# Altium integrated library TI Power Management Supervisor and Reset IC.IntLib: 819 symbols (part 22 of 30)
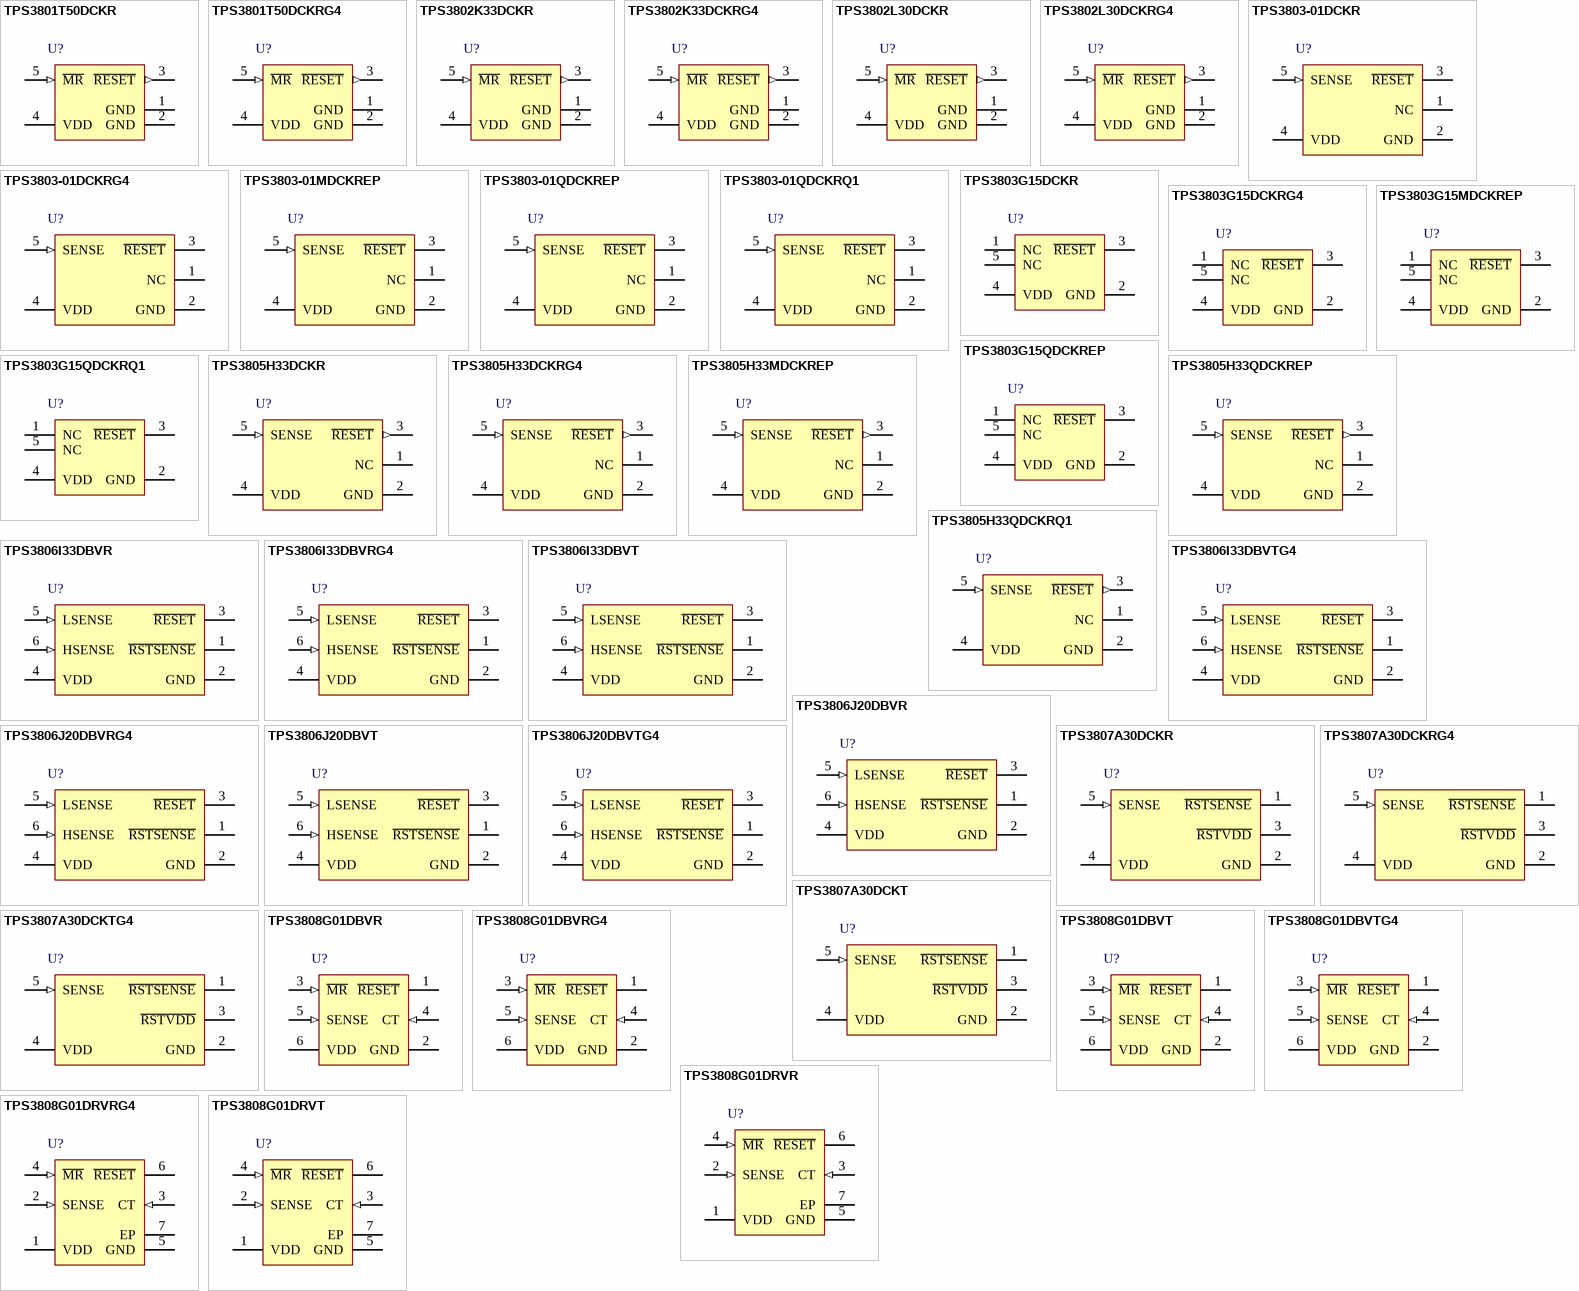
[diagram p42: symbols TPS3801T50DCKR to TPS3808G01DRVT]

## TPS3803-01QDCKREP
designator U?
Enhanced Product Single Voltage Detector, 1 Supply Monitored, -40 to 125 degC, 5-pin SC70 (DCK), Green (RoHS & no Sb/Br); Manufacturer: Texas Instruments; PartNumber: TPS3803-01QDCKREP; # of supplies monitored: 1; Iq(Typ)(uA): 3; Output Driver Type / Reset Output: Active-low, Open-drain; Rating: HiRel Enhanced Product; Reset Threshold Accuracy(%): 1.5; SubFamily: Supervisor and Reset IC; Threshold Voltage 1 (typ)(Typ)(V): Adjustable; VCC(Max)(V): 6; VCC(Min)(V): 1.3; DatasheetVersion: SGLS227C; PackageVersion: revG, Jan-2007; PackageReference: DCK5; PackageDescription: 5-Pin Plastic Small-Outline Package, 2 x 1.3 mm Body, 0.65 mm Pitch, 2.1 mm Lead Span; Supplier 1: Digi-Key; Supplier Part Number 1: 296-21268-2-ND; Supplier 2: Digi-Key; Supplier Part Number 2: 296-21268-1-ND; Supplier 3: Digi-Key; Supplier Part Number 3: 296-21268-6-ND; Supplier 4: Newark; Supplier Part Number 4: 46M1096; Supplier 5: Mouser; Supplier Part Number 5: 595-PS3803-01QDCKREP; Mounting Technology: Surface Mount; Code_JEDEC: MO-203-AA; ComponentLink1Description: Datasheet; ComponentLink1URL: http://www.ti.com/general/docs/lit/getliterature.tsp?genericPartNumber=TPS3803-01-EP&fileType=pdf
footprint DCK5_N (SOT353, 5-Leads, Body 2x1.3mm, Pitch 0.65mm, Lead Span 2.1mm, IPC Medium Density)
footprint DCK5_L (SOT353, 5-Leads, Body 2x1.3mm, Pitch 0.65mm, Lead Span 2.1mm, IPC High Density)
footprint DCK5_M (SOT353, 5-Leads, Body 2x1.3mm, Pitch 0.65mm, Lead Span 2.1mm, IPC Low Density)
pins: 1 NC "No internal connection", 2 GND (power) "Ground", 3 ~{RESET} (oc) "Active-low reset output (TPS3803--open-drain, TPS3805--push/pull)", 4 VDD (power) "Input supply voltage, fixed sense input for TPS3803G15 and TPS3805", 5 SENSE (in) "Adjustable sense input"

## TPS3803-01QDCKRQ1
designator U?
Automotive Catalog Single Voltage Detector, 1 Supply Monitored, -40 to 125 degC, 5-pin SC70 (DCK), Green (RoHS & no Sb/Br); Manufacturer: Texas Instruments; PartNumber: TPS3803-01QDCKRQ1; # of supplies monitored: 1; Iq(Typ)(uA): 3; Output Driver Type / Reset Output: Active-low, Open-drain; Reset Threshold Accuracy(%): 1.5; SubFamily: Supervisor and Reset IC; Threshold Voltage 1 (typ)(Typ)(V): Adjustable; VCC(Max)(V): 6; VCC(Min)(V): 1.3; DatasheetVersion: SGLS228B; PackageVersion: revG, Jan-2007; PackageReference: DCK5; PackageDescription: 5-Pin Plastic Small-Outline Package, 2 x 1.3 mm Body, 0.65 mm Pitch, 2.1 mm Lead Span; Supplier 1: Digi-Key; Supplier Part Number 1: 296-16960-2-ND; Supplier 2: Digi-Key; Supplier Part Number 2: 296-16960-1-ND; Supplier 3: Digi-Key; Supplier Part Number 3: 296-16960-6-ND; Supplier 4: Newark; Supplier Part Number 4: 95H4554; Supplier 5: Mouser; Supplier Part Number 5: 595-TPS380301QDCKRQ1; Rating: Automotive; Mounting Technology: Surface Mount; Code_JEDEC: MO-203-AA; ComponentLink1Description: Datasheet; ComponentLink1URL: http://www.ti.com/general/docs/lit/getliterature.tsp?genericPartNumber=TPS3803-01-Q1&fileType=pdf
footprint DCK5_N (SOT353, 5-Leads, Body 2x1.3mm, Pitch 0.65mm, Lead Span 2.1mm, IPC Medium Density)
footprint DCK5_L (SOT353, 5-Leads, Body 2x1.3mm, Pitch 0.65mm, Lead Span 2.1mm, IPC High Density)
footprint DCK5_M (SOT353, 5-Leads, Body 2x1.3mm, Pitch 0.65mm, Lead Span 2.1mm, IPC Low Density)
pins: 1 NC "No internal connection", 2 GND (power) "Ground", 3 ~{RESET} (oc) "Active-low reset output (TPS3803: open drain)", 4 VDD (power) "Input supply voltage, fixed sense input for TPS3803G15 and TPS3805", 5 SENSE (in) "Adjustable sense input"

## TPS3803G15DCKR
designator U?
Single Voltage Detector, 1 Supply Monitored, 5-pin SC70 (DCK), Green (RoHS & no Sb/Br); Manufacturer: Texas Instruments; PartNumber: TPS3803G15DCKR; # of supplies monitored: 1; Iq(Typ)(uA): 3; Output Driver Type / Reset Output: Active-low, Open-drain; Rating: Catalog; Reset Threshold Accuracy(%): 1.5; SubFamily: Supervisor and Reset IC; Threshold Voltage 1 (typ)(Typ)(V): 1.4; VCC(Max)(V): 6; VCC(Min)(V): 1.3; DatasheetVersion: SLVS392A; PackageVersion: revG, Jan-2007; PackageReference: DCK5; PackageDescription: 5-Pin Plastic Small-Outline Package, 2 x 1.3 mm Body, 0.65 mm Pitch, 2.1 mm Lead Span; Supplier 1: Digi-Key; Supplier Part Number 1: 296-13406-2-ND; Supplier 2: Digi-Key; Supplier Part Number 2: 296-13406-1-ND; Supplier 3: Digi-Key; Supplier Part Number 3: 296-13406-6-ND; Supplier 4: Newark; Supplier Part Number 4: 77C0393; Supplier 5: Mouser; Supplier Part Number 5: 595-TPS3803G15DCKR; Mounting Technology: Surface Mount; Code_JEDEC: MO-203-AA; ComponentLink1Description: Datasheet; ComponentLink1URL: http://www.ti.com/general/docs/lit/getliterature.tsp?genericPartNumber=TPS3803G15&fileType=pdf
footprint DCK5_N (SOT353, 5-Leads, Body 2x1.3mm, Pitch 0.65mm, Lead Span 2.1mm, IPC Medium Density)
footprint DCK5_L (SOT353, 5-Leads, Body 2x1.3mm, Pitch 0.65mm, Lead Span 2.1mm, IPC High Density)
footprint DCK5_M (SOT353, 5-Leads, Body 2x1.3mm, Pitch 0.65mm, Lead Span 2.1mm, IPC Low Density)
pins: 1 NC "No internal connection", 2 GND (power) "Ground", 3 ~{RESET} (oc) "Active-low reset output (TPS3803--open-drain, TPS3805--push/pull)", 4 VDD (power) "Input supply voltage, fixed sense input for TPS3803G15 and TPS3805", 5 NC "No internal connection"

## TPS3803G15DCKRG4
designator U?
Single Voltage Detector, 1 Supply Monitored, 5-pin SC70 (DCK), Green (RoHS & no Sb/Br); Manufacturer: Texas Instruments; PartNumber: TPS3803G15DCKRG4; # of supplies monitored: 1; Iq(Typ)(uA): 3; Output Driver Type / Reset Output: Active-low, Open-drain; Rating: Catalog; Reset Threshold Accuracy(%): 1.5; SubFamily: Supervisor and Reset IC; Threshold Voltage 1 (typ)(Typ)(V): 1.4; VCC(Max)(V): 6; VCC(Min)(V): 1.3; DatasheetVersion: SLVS392A; PackageVersion: revG, Jan-2007; PackageReference: DCK5; PackageDescription: 5-Pin Plastic Small-Outline Package, 2 x 1.3 mm Body, 0.65 mm Pitch, 2.1 mm Lead Span; Supplier 1: Digi-Key; Supplier Part Number 1: TPS3803G15DCKRG4-ND; Supplier 2: Newark; Supplier Part Number 2: 57K1320; Supplier 3: Mouser; Supplier Part Number 3: 595-TPS3803G15DCKRG4; Mounting Technology: Surface Mount; Code_JEDEC: MO-203-AA; ComponentLink1Description: Datasheet; ComponentLink1URL: http://www.ti.com/general/docs/lit/getliterature.tsp?genericPartNumber=TPS3803G15&fileType=pdf
footprint DCK5_N (SOT353, 5-Leads, Body 2x1.3mm, Pitch 0.65mm, Lead Span 2.1mm, IPC Medium Density)
footprint DCK5_L (SOT353, 5-Leads, Body 2x1.3mm, Pitch 0.65mm, Lead Span 2.1mm, IPC High Density)
footprint DCK5_M (SOT353, 5-Leads, Body 2x1.3mm, Pitch 0.65mm, Lead Span 2.1mm, IPC Low Density)
pins: 1 NC "No internal connection", 2 GND (power) "Ground", 3 ~{RESET} (oc) "Active-low reset output (TPS3803--open-drain, TPS3805--push/pull)", 4 VDD (power) "Input supply voltage, fixed sense input for TPS3803G15 and TPS3805", 5 NC "No internal connection"

## TPS3803G15MDCKREP
designator U?
Enhanced Product Single Voltage Detector, 1 Supply Monitored, -55 to 125 degC, 5-pin SC70 (DCK), Green (RoHS & no Sb/Br); Manufacturer: Texas Instruments; PartNumber: TPS3803G15MDCKREP; # of supplies monitored: 1; Iq(Typ)(uA): 3; Output Driver Type / Reset Output: Active-low, Open-drain; Rating: HiRel Enhanced Product; Reset Threshold Accuracy(%): 1.5; SubFamily: Supervisor and Reset IC; Threshold Voltage 1 (typ)(Typ)(V): 1.4; VCC(Max)(V): 6; VCC(Min)(V): 1.3; DatasheetVersion: SGLS227C; PackageVersion: revG, Jan-2007; PackageReference: DCK5; PackageDescription: 5-Pin Plastic Small-Outline Package, 2 x 1.3 mm Body, 0.65 mm Pitch, 2.1 mm Lead Span; Supplier 1: Digi-Key; Supplier Part Number 1: 296-19525-2-ND; Supplier 2: Digi-Key; Supplier Part Number 2: 296-19525-1-ND; Supplier 3: Digi-Key; Supplier Part Number 3: 296-19525-6-ND; Supplier 4: Mouser; Supplier Part Number 4: 595-PS3803G15MDCKREP; Mounting Technology: Surface Mount; Code_JEDEC: MO-203-AA; ComponentLink1Description: Datasheet; ComponentLink1URL: http://www.ti.com/general/docs/lit/getliterature.tsp?genericPartNumber=TPS3803G15-EP&fileType=pdf
footprint DCK5_N (SOT353, 5-Leads, Body 2x1.3mm, Pitch 0.65mm, Lead Span 2.1mm, IPC Medium Density)
footprint DCK5_L (SOT353, 5-Leads, Body 2x1.3mm, Pitch 0.65mm, Lead Span 2.1mm, IPC High Density)
footprint DCK5_M (SOT353, 5-Leads, Body 2x1.3mm, Pitch 0.65mm, Lead Span 2.1mm, IPC Low Density)
pins: 1 NC "No internal connection", 2 GND (power) "Ground", 3 ~{RESET} (oc) "Active-low reset output (TPS3803--open-drain, TPS3805--push/pull)", 4 VDD (power) "Input supply voltage, fixed sense input for TPS3803G15 and TPS3805", 5 NC "No internal connection"

## TPS3803G15QDCKREP
designator U?
Enhanced Product Single Voltage Detector, 1 Supply Monitored, -40 to 125 degC, 5-pin SC70 (DCK), Green (RoHS & no Sb/Br); Manufacturer: Texas Instruments; PartNumber: TPS3803G15QDCKREP; # of supplies monitored: 1; Iq(Typ)(uA): 3; Output Driver Type / Reset Output: Active-low, Open-drain; Rating: HiRel Enhanced Product; Reset Threshold Accuracy(%): 1.5; SubFamily: Supervisor and Reset IC; Threshold Voltage 1 (typ)(Typ)(V): 1.4; VCC(Max)(V): 6; VCC(Min)(V): 1.3; DatasheetVersion: SGLS227C; PackageVersion: revG, Jan-2007; PackageReference: DCK5; PackageDescription: 5-Pin Plastic Small-Outline Package, 2 x 1.3 mm Body, 0.65 mm Pitch, 2.1 mm Lead Span; Supplier 1: Digi-Key; Supplier Part Number 1: 296-19526-2-ND; Supplier 2: Digi-Key; Supplier Part Number 2: 296-19526-1-ND; Supplier 3: Digi-Key; Supplier Part Number 3: 296-19526-6-ND; Supplier 4: Mouser; Supplier Part Number 4: 595-PS3803G15QDCKREP; Mounting Technology: Surface Mount; Code_JEDEC: MO-203-AA; ComponentLink1Description: Datasheet; ComponentLink1URL: http://www.ti.com/general/docs/lit/getliterature.tsp?genericPartNumber=TPS3803G15-EP&fileType=pdf
footprint DCK5_N (SOT353, 5-Leads, Body 2x1.3mm, Pitch 0.65mm, Lead Span 2.1mm, IPC Medium Density)
footprint DCK5_L (SOT353, 5-Leads, Body 2x1.3mm, Pitch 0.65mm, Lead Span 2.1mm, IPC High Density)
footprint DCK5_M (SOT353, 5-Leads, Body 2x1.3mm, Pitch 0.65mm, Lead Span 2.1mm, IPC Low Density)
pins: 1 NC "No internal connection", 2 GND (power) "Ground", 3 ~{RESET} (oc) "Active-low reset output (TPS3803--open-drain, TPS3805--push/pull)", 4 VDD (power) "Input supply voltage, fixed sense input for TPS3803G15 and TPS3805", 5 NC "No internal connection"

## TPS3803G15QDCKRQ1
designator U?
Automotive Catalog Single Voltage Detector, 1 Supply Monitored, -40 to 125 degC, 5-pin SC70 (DCK), Green (RoHS & no Sb/Br); Manufacturer: Texas Instruments; PartNumber: TPS3803G15QDCKRQ1; # of supplies monitored: 1; Iq(Typ)(uA): 3; Output Driver Type / Reset Output: Active-low, Open-drain; Reset Threshold Accuracy(%): 1.5; SubFamily: Supervisor and Reset IC; Threshold Voltage 1 (typ)(Typ)(V): 1.4; VCC(Max)(V): 6; VCC(Min)(V): 1.3; DatasheetVersion: SGLS228B; PackageVersion: revG, Jan-2007; PackageReference: DCK5; PackageDescription: 5-Pin Plastic Small-Outline Package, 2 x 1.3 mm Body, 0.65 mm Pitch, 2.1 mm Lead Span; Supplier 1: Digi-Key; Supplier Part Number 1: 296-16961-2-ND; Supplier 2: Digi-Key; Supplier Part Number 2: 296-16961-1-ND; Supplier 3: Digi-Key; Supplier Part Number 3: 296-16961-6-ND; Supplier 4: Newark; Supplier Part Number 4: 95H4555; Supplier 5: Mouser; Supplier Part Number 5: 595-TP3803G15QDCKRQ1; Rating: Automotive; Mounting Technology: Surface Mount; Code_JEDEC: MO-203-AA; ComponentLink1Description: Datasheet; ComponentLink1URL: http://www.ti.com/general/docs/lit/getliterature.tsp?genericPartNumber=TPS3803G15-Q1&fileType=pdf
footprint DCK5_N (SOT353, 5-Leads, Body 2x1.3mm, Pitch 0.65mm, Lead Span 2.1mm, IPC Medium Density)
footprint DCK5_L (SOT353, 5-Leads, Body 2x1.3mm, Pitch 0.65mm, Lead Span 2.1mm, IPC High Density)
footprint DCK5_M (SOT353, 5-Leads, Body 2x1.3mm, Pitch 0.65mm, Lead Span 2.1mm, IPC Low Density)
pins: 1 NC "No internal connection", 2 GND (power) "Ground", 3 ~{RESET} (oc) "Active-low reset output (TPS3803: open drain)", 4 VDD (power) "Input supply voltage, fixed sense input for TPS3803G15 and TPS3805", 5 NC "No internal connection"

## TPS3805H33DCKR
designator U?
Dual Voltage Detector, 2 Supply Monitored, -40 to 85 degC, 5-pin SC70 (DCK), Green (RoHS & no Sb/Br); Manufacturer: Texas Instruments; PartNumber: TPS3805H33DCKR; # of supplies monitored: 2; Iq(Typ)(uA): 3; Output Driver Type / Reset Output: Active-low, Push-pull; Rating: Catalog; Reset Threshold Accuracy(%): 1.5; SubFamily: Supervisor and Reset IC; Threshold Voltage 1 (typ)(Typ)(V): 3.05; Threshold Voltage 2 (typ)(Typ)(V): Adjustable; VCC(Max)(V): 6; VCC(Min)(V): 1.3; DatasheetVersion: SLVS392A; PackageVersion: revG, Jan-2007; PackageReference: DCK5; PackageDescription: 5-Pin Plastic Small-Outline Package, 2 x 1.3 mm Body, 0.65 mm Pitch, 2.1 mm Lead Span; Supplier 1: Digi-Key; Supplier Part Number 1: 296-13407-2-ND; Supplier 2: Digi-Key; Supplier Part Number 2: 296-13407-1-ND; Supplier 3: Digi-Key; Supplier Part Number 3: 296-13407-6-ND; Supplier 4: Newark; Supplier Part Number 4: 77C0394; Supplier 5: Mouser; Supplier Part Number 5: 595-TPS3805H33DCKR; Mounting Technology: Surface Mount; Code_JEDEC: MO-203-AA; ComponentLink1Description: Datasheet; ComponentLink1URL: http://www.ti.com/general/docs/lit/getliterature.tsp?genericPartNumber=TPS3805H33&fileType=pdf
footprint DCK5_N (SOT353, 5-Leads, Body 2x1.3mm, Pitch 0.65mm, Lead Span 2.1mm, IPC Medium Density)
footprint DCK5_L (SOT353, 5-Leads, Body 2x1.3mm, Pitch 0.65mm, Lead Span 2.1mm, IPC High Density)
footprint DCK5_M (SOT353, 5-Leads, Body 2x1.3mm, Pitch 0.65mm, Lead Span 2.1mm, IPC Low Density)
pins: 1 NC "No internal connection", 2 GND (power) "Ground", 3 ~{RESET} (out) "Active-low reset output (TPS3803--open-drain, TPS3805--push/pull)", 4 VDD (power) "Input supply voltage, fixed sense input for TPS3803G15 and TPS3805", 5 SENSE (in) "Adjustable sense input"

## TPS3805H33DCKRG4
designator U?
Dual Voltage Detector, 2 Supply Monitored, -40 to 85 degC, 5-pin SC70 (DCK), Green (RoHS & no Sb/Br); Manufacturer: Texas Instruments; PartNumber: TPS3805H33DCKRG4; # of supplies monitored: 2; Iq(Typ)(uA): 3; Output Driver Type / Reset Output: Active-low, Push-pull; Rating: Catalog; Reset Threshold Accuracy(%): 1.5; SubFamily: Supervisor and Reset IC; Threshold Voltage 1 (typ)(Typ)(V): 3.05; Threshold Voltage 2 (typ)(Typ)(V): Adjustable; VCC(Max)(V): 6; VCC(Min)(V): 1.3; DatasheetVersion: SLVS392A; PackageVersion: revG, Jan-2007; PackageReference: DCK5; PackageDescription: 5-Pin Plastic Small-Outline Package, 2 x 1.3 mm Body, 0.65 mm Pitch, 2.1 mm Lead Span; Supplier 1: Digi-Key; Supplier Part Number 1: TPS3805H33DCKRG4-ND; Supplier 2: Newark; Supplier Part Number 2: 24K5930; Supplier 3: Mouser; Supplier Part Number 3: 595-TPS3805H33DCKRG4; Mounting Technology: Surface Mount; Code_JEDEC: MO-203-AA; ComponentLink1Description: Datasheet; ComponentLink1URL: http://www.ti.com/general/docs/lit/getliterature.tsp?genericPartNumber=TPS3805H33&fileType=pdf
footprint DCK5_N (SOT353, 5-Leads, Body 2x1.3mm, Pitch 0.65mm, Lead Span 2.1mm, IPC Medium Density)
footprint DCK5_L (SOT353, 5-Leads, Body 2x1.3mm, Pitch 0.65mm, Lead Span 2.1mm, IPC High Density)
footprint DCK5_M (SOT353, 5-Leads, Body 2x1.3mm, Pitch 0.65mm, Lead Span 2.1mm, IPC Low Density)
pins: 1 NC "No internal connection", 2 GND (power) "Ground", 3 ~{RESET} (out) "Active-low reset output (TPS3803--open-drain, TPS3805--push/pull)", 4 VDD (power) "Input supply voltage, fixed sense input for TPS3803G15 and TPS3805", 5 SENSE (in) "Adjustable sense input"

## TPS3805H33MDCKREP
designator U?
Enhanced Product Dual Voltage Detector, 2 Supply Monitored, -55 to 125 degC, 5-pin SC70 (DCK), Green (RoHS & no Sb/Br); Manufacturer: Texas Instruments; PartNumber: TPS3805H33MDCKREP; # of supplies monitored: 2; Iq(Typ)(uA): 3; Output Driver Type / Reset Output: Active-low, Push-pull; Rating: HiRel Enhanced Product; Reset Threshold Accuracy(%): 1.5; SubFamily: Supervisor and Reset IC; Threshold Voltage 1 (typ)(Typ)(V): 3.05; Threshold Voltage 2 (typ)(Typ)(V): Adjustable; VCC(Max)(V): 6; VCC(Min)(V): 1.3; DatasheetVersion: SGLS227C; PackageVersion: revG, Jan-2007; PackageReference: DCK5; PackageDescription: 5-Pin Plastic Small-Outline Package, 2 x 1.3 mm Body, 0.65 mm Pitch, 2.1 mm Lead Span; Supplier 1: Digi-Key; Supplier Part Number 1: 296-18152-2-ND; Supplier 2: Digi-Key; Supplier Part Number 2: 296-18152-1-ND; Supplier 3: Digi-Key; Supplier Part Number 3: 296-18152-6-ND; Supplier 4: Newark; Supplier Part Number 4: 46M1099; Supplier 5: Mouser; Supplier Part Number 5: 595-PS3805H33MDCKREP; Mounting Technology: Surface Mount; Code_JEDEC: MO-203-AA; ComponentLink1Description: Datasheet; ComponentLink1URL: http://www.ti.com/general/docs/lit/getliterature.tsp?genericPartNumber=TPS3805H33-EP&fileType=pdf
footprint DCK5_N (SOT353, 5-Leads, Body 2x1.3mm, Pitch 0.65mm, Lead Span 2.1mm, IPC Medium Density)
footprint DCK5_L (SOT353, 5-Leads, Body 2x1.3mm, Pitch 0.65mm, Lead Span 2.1mm, IPC High Density)
footprint DCK5_M (SOT353, 5-Leads, Body 2x1.3mm, Pitch 0.65mm, Lead Span 2.1mm, IPC Low Density)
pins: 1 NC "No internal connection", 2 GND (power) "Ground", 3 ~{RESET} (out) "Active-low reset output (TPS3803--open-drain, TPS3805--push/pull)", 4 VDD (power) "Input supply voltage, fixed sense input for TPS3803G15 and TPS3805", 5 SENSE (in) "Adjustable sense input"

## TPS3805H33QDCKREP
designator U?
Enhanced Product Dual Voltage Detector, 2 Supply Monitored, -40 to 125 degC, 5-pin SC70 (DCK), Green (RoHS & no Sb/Br); Manufacturer: Texas Instruments; PartNumber: TPS3805H33QDCKREP; # of supplies monitored: 2; Iq(Typ)(uA): 3; Output Driver Type / Reset Output: Active-low, Push-pull; Rating: HiRel Enhanced Product; Reset Threshold Accuracy(%): 1.5; SubFamily: Supervisor and Reset IC; Threshold Voltage 1 (typ)(Typ)(V): 3.05; Threshold Voltage 2 (typ)(Typ)(V): Adjustable; VCC(Max)(V): 6; VCC(Min)(V): 1.3; DatasheetVersion: SGLS227C; PackageVersion: revG, Jan-2007; PackageReference: DCK5; PackageDescription: 5-Pin Plastic Small-Outline Package, 2 x 1.3 mm Body, 0.65 mm Pitch, 2.1 mm Lead Span; Supplier 1: Digi-Key; Supplier Part Number 1: 296-22438-2-ND; Supplier 2: Digi-Key; Supplier Part Number 2: 296-22438-1-ND; Supplier 3: Digi-Key; Supplier Part Number 3: 296-22438-6-ND; Supplier 4: Newark; Supplier Part Number 4: 46M1100; Supplier 5: Mouser; Supplier Part Number 5: 595-PS3805H33QDCKREP; Mounting Technology: Surface Mount; Code_JEDEC: MO-203-AA; ComponentLink1Description: Datasheet; ComponentLink1URL: http://www.ti.com/general/docs/lit/getliterature.tsp?genericPartNumber=TPS3805H33-EP&fileType=pdf
footprint DCK5_N (SOT353, 5-Leads, Body 2x1.3mm, Pitch 0.65mm, Lead Span 2.1mm, IPC Medium Density)
footprint DCK5_L (SOT353, 5-Leads, Body 2x1.3mm, Pitch 0.65mm, Lead Span 2.1mm, IPC High Density)
footprint DCK5_M (SOT353, 5-Leads, Body 2x1.3mm, Pitch 0.65mm, Lead Span 2.1mm, IPC Low Density)
pins: 1 NC "No internal connection", 2 GND (power) "Ground", 3 ~{RESET} (out) "Active-low reset output (TPS3803--open-drain, TPS3805--push/pull)", 4 VDD (power) "Input supply voltage, fixed sense input for TPS3803G15 and TPS3805", 5 SENSE (in) "Adjustable sense input"

## TPS3805H33QDCKRQ1
designator U?
Automotive Catalog Dual Voltage Detector, -40 to 125 degC, 5-pin SC70 (DCK), Green (RoHS & no Sb/Br); Manufacturer: Texas Instruments; PartNumber: TPS3805H33QDCKRQ1; Reset Threshold Accuracy(%): 1.5; SubFamily: Supervisor and Reset IC; Threshold Voltage 1 (typ)(Typ)(V): 3; VCC(Max)(V): 6; VCC(Min)(V): 1.3; DatasheetVersion: SGLS228B; PackageVersion: revG, Jan-2007; PackageReference: DCK5; PackageDescription: 5-Pin Plastic Small-Outline Package, 2 x 1.3 mm Body, 0.65 mm Pitch, 2.1 mm Lead Span; Supplier 1: Digi-Key; Supplier Part Number 1: 296-16962-2-ND; Supplier 2: Digi-Key; Supplier Part Number 2: 296-16962-1-ND; Supplier 3: Digi-Key; Supplier Part Number 3: 296-16962-6-ND; Supplier 4: Newark; Supplier Part Number 4: 95H4556; Supplier 5: Mouser; Supplier Part Number 5: 595-PS3805H33QDCKRQ1; Rating: Automotive; Mounting Technology: Surface Mount; Code_JEDEC: MO-203-AA; ComponentLink1Description: Datasheet; ComponentLink1URL: http://www.ti.com/general/docs/lit/getliterature.tsp?genericPartNumber=TPS3805H33-Q1&fileType=pdf
footprint DCK5_N (SOT353, 5-Leads, Body 2x1.3mm, Pitch 0.65mm, Lead Span 2.1mm, IPC Medium Density)
footprint DCK5_L (SOT353, 5-Leads, Body 2x1.3mm, Pitch 0.65mm, Lead Span 2.1mm, IPC High Density)
footprint DCK5_M (SOT353, 5-Leads, Body 2x1.3mm, Pitch 0.65mm, Lead Span 2.1mm, IPC Low Density)
pins: 1 NC "No internal connection", 2 GND (power) "Ground", 3 ~{RESET} (out) "Active-low reset output (TPS3803: open drain, TPS3805: push/pull)", 4 VDD (power) "Input supply voltage, fixed sense input for TPS3803G15 and TPS3805", 5 SENSE (in) "Adjustable sense input"

## TPS3806I33DBVR
designator U?
Dual Voltage Detector with Adjustable Hysteresis, 2 Supply Monitored, -40 to 85 degC, 6-pin SOT-23 (DBV), Green (RoHS & no Sb/Br); Manufacturer: Texas Instruments; PartNumber: TPS3806I33DBVR; # of supplies monitored: 2; Iq(Typ)(uA): 3; Output Driver Type / Reset Output: Active-low, Open-drain; Rating: Catalog; SubFamily: Supervisor and Reset IC; VCC(Max)(V): 6; VCC(Min)(V): 1.3; DatasheetVersion: SLVS393A; PackageVersion: revK, Mar-2006; PackageReference: DBV6; PackageDescription: 6-Pin Plastic Small-Outline Package, 2.9 x 1.6 mm Body, 0.95 mm Pitch, 2.8 mm Lead Span; Supplier 1: Digi-Key; Supplier Part Number 1: 296-12011-2-ND; Supplier 2: Digi-Key; Supplier Part Number 2: 296-12011-1-ND; Supplier 3: Digi-Key; Supplier Part Number 3: 296-12011-6-ND; Supplier 4: Newark; Supplier Part Number 4: 77C0395; Supplier 5: Mouser; Supplier Part Number 5: 595-TPS3806I33DBVR; Reset Threshold Accuracy(%): 2; Threshold Voltage 1 (typ)(Typ)(V): 3; Threshold Voltage 2 (typ)(Typ)(V): Adjustable; Mounting Technology: Surface Mount; Code_JEDEC: MO-178-AB*; ComponentLink1Description: Datasheet; ComponentLink1URL: http://www.ti.com/general/docs/lit/getliterature.tsp?genericPartNumber=TPS3806I33&fileType=pdf
footprint DBV6_N (SOT23, 6-Leads, Body 2.9x1.6mm, Pitch 0.95mm, Lead Span 2.8mm, IPC Medium Density)
footprint DBV6_L (SOT23, 6-Leads, Body 2.9x1.6mm, Pitch 0.95mm, Lead Span 2.8mm, IPC High Density)
footprint DBV6_M (SOT23, 6-Leads, Body 2.9x1.6mm, Pitch 0.95mm, Lead Span 2.8mm, IPC Low Density)
pins: 1 ~{RSTSENSE} (oc) "Active-low open-drain reset output (from LSENSE)", 2 GND (power) "Ground", 3 ~{RESET} (oc) "Active-low open drain reset output (from VDD)", 4 VDD (power) "Input supply voltage and fixed sense input", 5 LSENSE (in) "Adjustable sense input", 6 HSENSE (in) "Adjustable hysteresis input"

## TPS3806I33DBVRG4
designator U?
Dual Voltage Detector with Adjustable Hysteresis, 2 Supply Monitored, -40 to 85 degC, 6-pin SOT-23 (DBV), Green (RoHS & no Sb/Br); Manufacturer: Texas Instruments; PartNumber: TPS3806I33DBVRG4; # of supplies monitored: 2; Iq(Typ)(uA): 3; Output Driver Type / Reset Output: Active-low, Open-drain; Rating: Catalog; SubFamily: Supervisor and Reset IC; VCC(Max)(V): 6; VCC(Min)(V): 1.3; DatasheetVersion: SLVS393A; PackageVersion: revK, Mar-2006; PackageReference: DBV6; PackageDescription: 6-Pin Plastic Small-Outline Package, 2.9 x 1.6 mm Body, 0.95 mm Pitch, 2.8 mm Lead Span; Supplier 1: Digi-Key; Supplier Part Number 1: TPS3806I33DBVRG4-ND; Supplier 2: Newark; Supplier Part Number 2: 24K5931; Supplier 3: Mouser; Supplier Part Number 3: 595-TPS3806I33DBVRG4; Reset Threshold Accuracy(%): 2; Threshold Voltage 1 (typ)(Typ)(V): 3; Threshold Voltage 2 (typ)(Typ)(V): Adjustable; Mounting Technology: Surface Mount; Code_JEDEC: MO-178-AB*; ComponentLink1Description: Datasheet; ComponentLink1URL: http://www.ti.com/general/docs/lit/getliterature.tsp?genericPartNumber=TPS3806I33&fileType=pdf
footprint DBV6_N (SOT23, 6-Leads, Body 2.9x1.6mm, Pitch 0.95mm, Lead Span 2.8mm, IPC Medium Density)
footprint DBV6_L (SOT23, 6-Leads, Body 2.9x1.6mm, Pitch 0.95mm, Lead Span 2.8mm, IPC High Density)
footprint DBV6_M (SOT23, 6-Leads, Body 2.9x1.6mm, Pitch 0.95mm, Lead Span 2.8mm, IPC Low Density)
pins: 1 ~{RSTSENSE} (oc) "Active-low open-drain reset output (from LSENSE)", 2 GND (power) "Ground", 3 ~{RESET} (oc) "Active-low open drain reset output (from VDD)", 4 VDD (power) "Input supply voltage and fixed sense input", 5 LSENSE (in) "Adjustable sense input", 6 HSENSE (in) "Adjustable hysteresis input"

## TPS3806I33DBVT
designator U?
Dual Voltage Detector with Adjustable Hysteresis, 2 Supply Monitored, -40 to 85 degC, 6-pin SOT-23 (DBV), Green (RoHS & no Sb/Br); Manufacturer: Texas Instruments; PartNumber: TPS3806I33DBVT; # of supplies monitored: 2; Iq(Typ)(uA): 3; Output Driver Type / Reset Output: Active-low, Open-drain; Rating: Catalog; SubFamily: Supervisor and Reset IC; VCC(Max)(V): 6; VCC(Min)(V): 1.3; DatasheetVersion: SLVS393A; PackageVersion: revK, Mar-2006; PackageReference: DBV6; PackageDescription: 6-Pin Plastic Small-Outline Package, 2.9 x 1.6 mm Body, 0.95 mm Pitch, 2.8 mm Lead Span; Supplier 1: Digi-Key; Supplier Part Number 1: 296-32473-2-ND; Supplier 2: Digi-Key; Supplier Part Number 2: 296-32473-1-ND; Supplier 3: Digi-Key; Supplier Part Number 3: 296-32473-6-ND; Supplier 4: Newark; Supplier Part Number 4: 77C0396; Supplier 5: Mouser; Supplier Part Number 5: 595-TPS3806I33DBVT; Reset Threshold Accuracy(%): 2; Threshold Voltage 1 (typ)(Typ)(V): 3; Threshold Voltage 2 (typ)(Typ)(V): Adjustable; Mounting Technology: Surface Mount; Code_JEDEC: MO-178-AB*; ComponentLink1Description: Datasheet; ComponentLink1URL: http://www.ti.com/general/docs/lit/getliterature.tsp?genericPartNumber=TPS3806I33&fileType=pdf
footprint DBV6_N (SOT23, 6-Leads, Body 2.9x1.6mm, Pitch 0.95mm, Lead Span 2.8mm, IPC Medium Density)
footprint DBV6_L (SOT23, 6-Leads, Body 2.9x1.6mm, Pitch 0.95mm, Lead Span 2.8mm, IPC High Density)
footprint DBV6_M (SOT23, 6-Leads, Body 2.9x1.6mm, Pitch 0.95mm, Lead Span 2.8mm, IPC Low Density)
pins: 1 ~{RSTSENSE} (oc) "Active-low open-drain reset output (from LSENSE)", 2 GND (power) "Ground", 3 ~{RESET} (oc) "Active-low open drain reset output (from VDD)", 4 VDD (power) "Input supply voltage and fixed sense input", 5 LSENSE (in) "Adjustable sense input", 6 HSENSE (in) "Adjustable hysteresis input"

## TPS3806I33DBVTG4
designator U?
Dual Voltage Detector with Adjustable Hysteresis, 2 Supply Monitored, -40 to 85 degC, 6-pin SOT-23 (DBV), Green (RoHS & no Sb/Br); Manufacturer: Texas Instruments; PartNumber: TPS3806I33DBVTG4; # of supplies monitored: 2; Iq(Typ)(uA): 3; Output Driver Type / Reset Output: Active-low, Open-drain; Rating: Catalog; SubFamily: Supervisor and Reset IC; VCC(Max)(V): 6; VCC(Min)(V): 1.3; DatasheetVersion: SLVS393A; PackageVersion: revK, Mar-2006; PackageReference: DBV6; PackageDescription: 6-Pin Plastic Small-Outline Package, 2.9 x 1.6 mm Body, 0.95 mm Pitch, 2.8 mm Lead Span; Supplier 1: Digi-Key; Supplier Part Number 1: TPS3806I33DBVTG4-ND; Supplier 2: Newark; Supplier Part Number 2: 24K5932; Supplier 3: Mouser; Supplier Part Number 3: 595-TPS3806I33DBVTG4; Reset Threshold Accuracy(%): 2; Threshold Voltage 1 (typ)(Typ)(V): 3; Threshold Voltage 2 (typ)(Typ)(V): Adjustable; Mounting Technology: Surface Mount; Code_JEDEC: MO-178-AB*; ComponentLink1Description: Datasheet; ComponentLink1URL: http://www.ti.com/general/docs/lit/getliterature.tsp?genericPartNumber=TPS3806I33&fileType=pdf
footprint DBV6_N (SOT23, 6-Leads, Body 2.9x1.6mm, Pitch 0.95mm, Lead Span 2.8mm, IPC Medium Density)
footprint DBV6_L (SOT23, 6-Leads, Body 2.9x1.6mm, Pitch 0.95mm, Lead Span 2.8mm, IPC High Density)
footprint DBV6_M (SOT23, 6-Leads, Body 2.9x1.6mm, Pitch 0.95mm, Lead Span 2.8mm, IPC Low Density)
pins: 1 ~{RSTSENSE} (oc) "Active-low open-drain reset output (from LSENSE)", 2 GND (power) "Ground", 3 ~{RESET} (oc) "Active-low open drain reset output (from VDD)", 4 VDD (power) "Input supply voltage and fixed sense input", 5 LSENSE (in) "Adjustable sense input", 6 HSENSE (in) "Adjustable hysteresis input"

## TPS3806J20DBVR
designator U?
Dual Voltage Detector with Adjustable Hysteresis, 2 Supply Monitored, -40 to 85 degC, 6-pin SOT-23 (DBV), Green (RoHS & no Sb/Br); Manufacturer: Texas Instruments; PartNumber: TPS3806J20DBVR; # of supplies monitored: 2; Iq(Typ)(uA): 3; Output Driver Type / Reset Output: Active-low, Open-drain; Rating: Catalog; SubFamily: Supervisor and Reset IC; Threshold Voltage 1 (typ)(Typ)(V): 1.8; VCC(Max)(V): 6; VCC(Min)(V): 1.3; DatasheetVersion: SLVS393A; PackageVersion: revK, Mar-2006; PackageReference: DBV6; PackageDescription: 6-Pin Plastic Small-Outline Package, 2.9 x 1.6 mm Body, 0.95 mm Pitch, 2.8 mm Lead Span; Supplier 1: Digi-Key; Supplier Part Number 1: 296-12012-2-ND; Supplier 2: Digi-Key; Supplier Part Number 2: 296-12012-1-ND; Supplier 3: Digi-Key; Supplier Part Number 3: 296-12012-6-ND; Supplier 4: Newark; Supplier Part Number 4: 77C0397; Supplier 5: Mouser; Supplier Part Number 5: 595-TPS3806J20DBVR; Reset Threshold Accuracy(%): 2; Threshold Voltage 2 (typ)(Typ)(V): Adjustable; Mounting Technology: Surface Mount; Code_JEDEC: MO-178-AB*; ComponentLink1Description: Datasheet; ComponentLink1URL: http://www.ti.com/general/docs/lit/getliterature.tsp?genericPartNumber=TPS3806J20&fileType=pdf
footprint DBV6_N (SOT23, 6-Leads, Body 2.9x1.6mm, Pitch 0.95mm, Lead Span 2.8mm, IPC Medium Density)
footprint DBV6_L (SOT23, 6-Leads, Body 2.9x1.6mm, Pitch 0.95mm, Lead Span 2.8mm, IPC High Density)
footprint DBV6_M (SOT23, 6-Leads, Body 2.9x1.6mm, Pitch 0.95mm, Lead Span 2.8mm, IPC Low Density)
pins: 1 ~{RSTSENSE} (oc) "Active-low open-drain reset output (from LSENSE)", 2 GND (power) "Ground", 3 ~{RESET} (oc) "Active-low open drain reset output (from VDD )", 4 VDD (power) "Input supply voltage and fixed sense input", 5 LSENSE (in) "Adjustable sense input", 6 HSENSE (in) "Adjustable hysteresis input"

## TPS3806J20DBVRG4
designator U?
Dual Voltage Detector with Adjustable Hysteresis, 2 Supply Monitored, -40 to 85 degC, 6-pin SOT-23 (DBV), Green (RoHS & no Sb/Br); Manufacturer: Texas Instruments; PartNumber: TPS3806J20DBVRG4; # of supplies monitored: 2; Iq(Typ)(uA): 3; Output Driver Type / Reset Output: Active-low, Open-drain; Rating: Catalog; SubFamily: Supervisor and Reset IC; Threshold Voltage 1 (typ)(Typ)(V): 1.8; VCC(Max)(V): 6; VCC(Min)(V): 1.3; DatasheetVersion: SLVS393A; PackageVersion: revK, Mar-2006; PackageReference: DBV6; PackageDescription: 6-Pin Plastic Small-Outline Package, 2.9 x 1.6 mm Body, 0.95 mm Pitch, 2.8 mm Lead Span; Supplier 1: Digi-Key; Supplier Part Number 1: TPS3806J20DBVRG4-ND; Supplier 2: Newark; Supplier Part Number 2: 81K4144; Supplier 3: Mouser; Supplier Part Number 3: 595-TPS3806J20DBVRG4; Reset Threshold Accuracy(%): 2; Threshold Voltage 2 (typ)(Typ)(V): Adjustable; Mounting Technology: Surface Mount; Code_JEDEC: MO-178-AB*; ComponentLink1Description: Datasheet; ComponentLink1URL: http://www.ti.com/general/docs/lit/getliterature.tsp?genericPartNumber=TPS3806J20&fileType=pdf
footprint DBV6_N (SOT23, 6-Leads, Body 2.9x1.6mm, Pitch 0.95mm, Lead Span 2.8mm, IPC Medium Density)
footprint DBV6_L (SOT23, 6-Leads, Body 2.9x1.6mm, Pitch 0.95mm, Lead Span 2.8mm, IPC High Density)
footprint DBV6_M (SOT23, 6-Leads, Body 2.9x1.6mm, Pitch 0.95mm, Lead Span 2.8mm, IPC Low Density)
pins: 1 ~{RSTSENSE} (oc) "Active-low open-drain reset output (from LSENSE)", 2 GND (power) "Ground", 3 ~{RESET} (oc) "Active-low open drain reset output (from VDD )", 4 VDD (power) "Input supply voltage and fixed sense input", 5 LSENSE (in) "Adjustable sense input", 6 HSENSE (in) "Adjustable hysteresis input"

## TPS3806J20DBVT
designator U?
Dual Voltage Detector with Adjustable Hysteresis, 2 Supply Monitored, -40 to 85 degC, 6-pin SOT-23 (DBV), Green (RoHS & no Sb/Br); Manufacturer: Texas Instruments; PartNumber: TPS3806J20DBVT; # of supplies monitored: 2; Iq(Typ)(uA): 3; Output Driver Type / Reset Output: Active-low, Open-drain; Rating: Catalog; SubFamily: Supervisor and Reset IC; Threshold Voltage 1 (typ)(Typ)(V): 1.8; VCC(Max)(V): 6; VCC(Min)(V): 1.3; DatasheetVersion: SLVS393A; PackageVersion: revK, Mar-2006; PackageReference: DBV6; PackageDescription: 6-Pin Plastic Small-Outline Package, 2.9 x 1.6 mm Body, 0.95 mm Pitch, 2.8 mm Lead Span; Supplier 1: Digi-Key; Supplier Part Number 1: 296-32474-2-ND; Supplier 2: Digi-Key; Supplier Part Number 2: 296-32474-1-ND; Supplier 3: Digi-Key; Supplier Part Number 3: 296-32474-6-ND; Supplier 4: Newark; Supplier Part Number 4: 77C0398; Supplier 5: Mouser; Supplier Part Number 5: 595-TPS3806J20DBVT; Reset Threshold Accuracy(%): 2; Threshold Voltage 2 (typ)(Typ)(V): Adjustable; Mounting Technology: Surface Mount; Code_JEDEC: MO-178-AB*; ComponentLink1Description: Datasheet; ComponentLink1URL: http://www.ti.com/general/docs/lit/getliterature.tsp?genericPartNumber=TPS3806J20&fileType=pdf
footprint DBV6_N (SOT23, 6-Leads, Body 2.9x1.6mm, Pitch 0.95mm, Lead Span 2.8mm, IPC Medium Density)
footprint DBV6_L (SOT23, 6-Leads, Body 2.9x1.6mm, Pitch 0.95mm, Lead Span 2.8mm, IPC High Density)
footprint DBV6_M (SOT23, 6-Leads, Body 2.9x1.6mm, Pitch 0.95mm, Lead Span 2.8mm, IPC Low Density)
pins: 1 ~{RSTSENSE} (oc) "Active-low open-drain reset output (from LSENSE)", 2 GND (power) "Ground", 3 ~{RESET} (oc) "Active-low open drain reset output (from VDD )", 4 VDD (power) "Input supply voltage and fixed sense input", 5 LSENSE (in) "Adjustable sense input", 6 HSENSE (in) "Adjustable hysteresis input"

## TPS3806J20DBVTG4
designator U?
Dual Voltage Detector with Adjustable Hysteresis, 2 Supply Monitored, -40 to 85 degC, 6-pin SOT-23 (DBV), Green (RoHS & no Sb/Br); Manufacturer: Texas Instruments; PartNumber: TPS3806J20DBVTG4; # of supplies monitored: 2; Iq(Typ)(uA): 3; Output Driver Type / Reset Output: Active-low, Open-drain; Rating: Catalog; SubFamily: Supervisor and Reset IC; Threshold Voltage 1 (typ)(Typ)(V): 1.8; VCC(Max)(V): 6; VCC(Min)(V): 1.3; DatasheetVersion: SLVS393A; PackageVersion: revK, Mar-2006; PackageReference: DBV6; PackageDescription: 6-Pin Plastic Small-Outline Package, 2.9 x 1.6 mm Body, 0.95 mm Pitch, 2.8 mm Lead Span; Supplier 1: Digi-Key; Supplier Part Number 1: TPS3806J20DBVTG4-ND; Supplier 2: Newark; Supplier Part Number 2: 24K5933; Supplier 3: Mouser; Supplier Part Number 3: 595-TPS3806J20DBVTG4; Reset Threshold Accuracy(%): 2; Threshold Voltage 2 (typ)(Typ)(V): Adjustable; Mounting Technology: Surface Mount; Code_JEDEC: MO-178-AB*; ComponentLink1Description: Datasheet; ComponentLink1URL: http://www.ti.com/general/docs/lit/getliterature.tsp?genericPartNumber=TPS3806J20&fileType=pdf
footprint DBV6_N (SOT23, 6-Leads, Body 2.9x1.6mm, Pitch 0.95mm, Lead Span 2.8mm, IPC Medium Density)
footprint DBV6_L (SOT23, 6-Leads, Body 2.9x1.6mm, Pitch 0.95mm, Lead Span 2.8mm, IPC High Density)
footprint DBV6_M (SOT23, 6-Leads, Body 2.9x1.6mm, Pitch 0.95mm, Lead Span 2.8mm, IPC Low Density)
pins: 1 ~{RSTSENSE} (oc) "Active-low open-drain reset output (from LSENSE)", 2 GND (power) "Ground", 3 ~{RESET} (oc) "Active-low open drain reset output (from VDD )", 4 VDD (power) "Input supply voltage and fixed sense input", 5 LSENSE (in) "Adjustable sense input", 6 HSENSE (in) "Adjustable hysteresis input"

## TPS3807A30DCKR
designator U?
Low Quiescent Current, Dual-Channel Supervisory Circuit, 2 Supply Monitored, -40 to 85 degC, 5-pin SC70 (DCK), Green (RoHS & no Sb/Br); Manufacturer: Texas Instruments; PartNumber: TPS3807A30DCKR; # of supplies monitored: 2; Iq(Typ)(uA): 3.5; Output Driver Type / Reset Output: Active-low, Open-drain; Rating: Catalog; Reset Threshold Accuracy(%): 1.25; SubFamily: Supervisor and Reset IC; Threshold Voltage 1 (typ)(Typ)(V): 3; Threshold Voltage 2 (typ)(Typ)(V): Adjustable; VCC(Max)(V): 6.5; VCC(Min)(V): 1.8; DatasheetVersion: SBVS061B; PackageVersion: revG, Jan-2007; PackageReference: DCK5; PackageDescription: 5-Pin Plastic Small-Outline Package, 2 x 1.3 mm Body, 0.65 mm Pitch, 2.1 mm Lead Span; Supplier 1: Digi-Key; Supplier Part Number 1: TPS3807A30DCKR-ND; Supplier 2: Newark; Supplier Part Number 2: 58K6927; Supplier 3: Mouser; Supplier Part Number 3: 595-TPS3807A30DCKR; Mounting Technology: Surface Mount; Code_JEDEC: MO-203-AA; ComponentLink1Description: Datasheet; ComponentLink1URL: http://www.ti.com/general/docs/lit/getliterature.tsp?genericPartNumber=TPS3807A30&fileType=pdf
footprint DCK5_N (SOT353, 5-Leads, Body 2x1.3mm, Pitch 0.65mm, Lead Span 2.1mm, IPC Medium Density)
footprint DCK5_L (SOT353, 5-Leads, Body 2x1.3mm, Pitch 0.65mm, Lead Span 2.1mm, IPC High Density)
footprint DCK5_M (SOT353, 5-Leads, Body 2x1.3mm, Pitch 0.65mm, Lead Span 2.1mm, IPC Low Density)
pins: 1 ~{RSTSENSE} (oc) "R\S\T\S\E\N\S\E\ is an open-drain output that is driven to a low-impedance state when the SENSE input is lower than the threshold voltage VSENSE IT-. R\S\T\S\E\N\S\E\ will remain low until SENSE is above VSENSE IT+. A (See Datasheet)", 2 GND (power) "Ground", 3 ~{RSTVDD} (oc) "R\S\T\V\D\D\ is an open-drain output that is driven to a low-impedance state when the VDD input is lower than the threshold voltage VDD IT-. R\S\T\V\D\D\ will remain low until VDD is above VDD IT+. A pull-up resistor from (See Datasheet)", 4 VDD (power) "Supply voltage for the device and sense input for fixed-threshold R\S\T\V\D\D\ outputs A 0.1uF ceramic capacitor should be placed close to this pin for best VIT stability.", 5 SENSE (in) "Sense input for the adjustable-threshold R\S\T\S\E\N\S\E\ outputs. A resistor divider from the sense voltage can be attached to this pin to set the thresholds to the desired voltages. A 0.1uF ceramic capacitor should be (See Datasheet)"

## TPS3807A30DCKRG4
designator U?
Low Quiescent Current, Dual-Channel Supervisory Circuit, 2 Supply Monitored, -40 to 85 degC, 5-pin SC70 (DCK), Green (RoHS & no Sb/Br); Manufacturer: Texas Instruments; PartNumber: TPS3807A30DCKRG4; # of supplies monitored: 2; Iq(Typ)(uA): 3.5; Output Driver Type / Reset Output: Active-low, Open-drain; Rating: Catalog; Reset Threshold Accuracy(%): 1.25; SubFamily: Supervisor and Reset IC; Threshold Voltage 1 (typ)(Typ)(V): 3; Threshold Voltage 2 (typ)(Typ)(V): Adjustable; VCC(Max)(V): 6.5; VCC(Min)(V): 1.8; DatasheetVersion: SBVS061B; PackageVersion: revG, Jan-2007; PackageReference: DCK5; PackageDescription: 5-Pin Plastic Small-Outline Package, 2 x 1.3 mm Body, 0.65 mm Pitch, 2.1 mm Lead Span; Supplier 1: Digi-Key; Supplier Part Number 1: TPS3807A30DCKRG4-ND; Supplier 2: Newark; Supplier Part Number 2: 63K6552; Supplier 3: Mouser; Supplier Part Number 3: 595-TPS3807A30DCKRG4; Mounting Technology: Surface Mount; Code_JEDEC: MO-203-AA; ComponentLink1Description: Datasheet; ComponentLink1URL: http://www.ti.com/general/docs/lit/getliterature.tsp?genericPartNumber=TPS3807A30&fileType=pdf
footprint DCK5_N (SOT353, 5-Leads, Body 2x1.3mm, Pitch 0.65mm, Lead Span 2.1mm, IPC Medium Density)
footprint DCK5_L (SOT353, 5-Leads, Body 2x1.3mm, Pitch 0.65mm, Lead Span 2.1mm, IPC High Density)
footprint DCK5_M (SOT353, 5-Leads, Body 2x1.3mm, Pitch 0.65mm, Lead Span 2.1mm, IPC Low Density)
pins: 1 ~{RSTSENSE} (oc) "R\S\T\S\E\N\S\E\ is an open-drain output that is driven to a low-impedance state when the SENSE input is lower than the threshold voltage VSENSE IT-. R\S\T\S\E\N\S\E\ will remain low until SENSE is above VSENSE IT+. A (See Datasheet)", 2 GND (power) "Ground", 3 ~{RSTVDD} (oc) "R\S\T\V\D\D\ is an open-drain output that is driven to a low-impedance state when the VDD input is lower than the threshold voltage VDD IT-. R\S\T\V\D\D\ will remain low until VDD is above VDD IT+. A pull-up resistor from (See Datasheet)", 4 VDD (power) "Supply voltage for the device and sense input for fixed-threshold R\S\T\V\D\D\ outputs A 0.1uF ceramic capacitor should be placed close to this pin for best VIT stability.", 5 SENSE (in) "Sense input for the adjustable-threshold R\S\T\S\E\N\S\E\ outputs. A resistor divider from the sense voltage can be attached to this pin to set the thresholds to the desired voltages. A 0.1uF ceramic capacitor should be (See Datasheet)"

## TPS3807A30DCKT
designator U?
Low Quiescent Current, Dual-Channel Supervisory Circuit, 2 Supply Monitored, -40 to 85 degC, 5-pin SC70 (DCK), Green (RoHS & no Sb/Br); Manufacturer: Texas Instruments; PartNumber: TPS3807A30DCKT; # of supplies monitored: 2; Iq(Typ)(uA): 3.5; Output Driver Type / Reset Output: Active-low, Open-drain; Rating: Catalog; Reset Threshold Accuracy(%): 1.25; SubFamily: Supervisor and Reset IC; Threshold Voltage 1 (typ)(Typ)(V): 3; Threshold Voltage 2 (typ)(Typ)(V): Adjustable; VCC(Max)(V): 6.5; VCC(Min)(V): 1.8; DatasheetVersion: SBVS061B; PackageVersion: revG, Jan-2007; PackageReference: DCK5; PackageDescription: 5-Pin Plastic Small-Outline Package, 2 x 1.3 mm Body, 0.65 mm Pitch, 2.1 mm Lead Span; Supplier 1: Digi-Key; Supplier Part Number 1: 296-18602-2-ND; Supplier 2: Digi-Key; Supplier Part Number 2: 296-18602-1-ND; Supplier 3: Digi-Key; Supplier Part Number 3: 296-18602-6-ND; Supplier 4: Newark; Supplier Part Number 4: 58K6928; Supplier 5: Mouser; Supplier Part Number 5: 595-TPS3807A30DCKT; Mounting Technology: Surface Mount; Code_JEDEC: MO-203-AA; ComponentLink1Description: Datasheet; ComponentLink1URL: http://www.ti.com/general/docs/lit/getliterature.tsp?genericPartNumber=TPS3807A30&fileType=pdf
footprint DCK5_N (SOT353, 5-Leads, Body 2x1.3mm, Pitch 0.65mm, Lead Span 2.1mm, IPC Medium Density)
footprint DCK5_L (SOT353, 5-Leads, Body 2x1.3mm, Pitch 0.65mm, Lead Span 2.1mm, IPC High Density)
footprint DCK5_M (SOT353, 5-Leads, Body 2x1.3mm, Pitch 0.65mm, Lead Span 2.1mm, IPC Low Density)
pins: 1 ~{RSTSENSE} (oc) "R\S\T\S\E\N\S\E\ is an open-drain output that is driven to a low-impedance state when the SENSE input is lower than the threshold voltage VSENSE IT-. R\S\T\S\E\N\S\E\ will remain low until SENSE is above VSENSE IT+. A (See Datasheet)", 2 GND (power) "Ground", 3 ~{RSTVDD} (oc) "R\S\T\V\D\D\ is an open-drain output that is driven to a low-impedance state when the VDD input is lower than the threshold voltage VDD IT-. R\S\T\V\D\D\ will remain low until VDD is above VDD IT+. A pull-up resistor from (See Datasheet)", 4 VDD (power) "Supply voltage for the device and sense input for fixed-threshold R\S\T\V\D\D\ outputs A 0.1uF ceramic capacitor should be placed close to this pin for best VIT stability.", 5 SENSE (in) "Sense input for the adjustable-threshold R\S\T\S\E\N\S\E\ outputs. A resistor divider from the sense voltage can be attached to this pin to set the thresholds to the desired voltages. A 0.1uF ceramic capacitor should be (See Datasheet)"

## TPS3807A30DCKTG4
designator U?
Low Quiescent Current, Dual-Channel Supervisory Circuit, 2 Supply Monitored, -40 to 85 degC, 5-pin SC70 (DCK), Green (RoHS & no Sb/Br); Manufacturer: Texas Instruments; PartNumber: TPS3807A30DCKTG4; # of supplies monitored: 2; Iq(Typ)(uA): 3.5; Output Driver Type / Reset Output: Active-low, Open-drain; Rating: Catalog; Reset Threshold Accuracy(%): 1.25; SubFamily: Supervisor and Reset IC; Threshold Voltage 1 (typ)(Typ)(V): 3; Threshold Voltage 2 (typ)(Typ)(V): Adjustable; VCC(Max)(V): 6.5; VCC(Min)(V): 1.8; DatasheetVersion: SBVS061B; PackageVersion: revG, Jan-2007; PackageReference: DCK5; PackageDescription: 5-Pin Plastic Small-Outline Package, 2 x 1.3 mm Body, 0.65 mm Pitch, 2.1 mm Lead Span; Supplier 1: Digi-Key; Supplier Part Number 1: TPS3807A30DCKTG4-ND; Supplier 2: Newark; Supplier Part Number 2: 63K6553; Supplier 3: Mouser; Supplier Part Number 3: 595-TPS3807A30DCKTG4; Mounting Technology: Surface Mount; Code_JEDEC: MO-203-AA; ComponentLink1Description: Datasheet; ComponentLink1URL: http://www.ti.com/general/docs/lit/getliterature.tsp?genericPartNumber=TPS3807A30&fileType=pdf
footprint DCK5_N (SOT353, 5-Leads, Body 2x1.3mm, Pitch 0.65mm, Lead Span 2.1mm, IPC Medium Density)
footprint DCK5_L (SOT353, 5-Leads, Body 2x1.3mm, Pitch 0.65mm, Lead Span 2.1mm, IPC High Density)
footprint DCK5_M (SOT353, 5-Leads, Body 2x1.3mm, Pitch 0.65mm, Lead Span 2.1mm, IPC Low Density)
pins: 1 ~{RSTSENSE} (oc) "R\S\T\S\E\N\S\E\ is an open-drain output that is driven to a low-impedance state when the SENSE input is lower than the threshold voltage VSENSE IT-. R\S\T\S\E\N\S\E\ will remain low until SENSE is above VSENSE IT+. A (See Datasheet)", 2 GND (power) "Ground", 3 ~{RSTVDD} (oc) "R\S\T\V\D\D\ is an open-drain output that is driven to a low-impedance state when the VDD input is lower than the threshold voltage VDD IT-. R\S\T\V\D\D\ will remain low until VDD is above VDD IT+. A pull-up resistor from (See Datasheet)", 4 VDD (power) "Supply voltage for the device and sense input for fixed-threshold R\S\T\V\D\D\ outputs A 0.1uF ceramic capacitor should be placed close to this pin for best VIT stability.", 5 SENSE (in) "Sense input for the adjustable-threshold R\S\T\S\E\N\S\E\ outputs. A resistor divider from the sense voltage can be attached to this pin to set the thresholds to the desired voltages. A 0.1uF ceramic capacitor should be (See Datasheet)"

## TPS3808G01DBVR
designator U?
Low Quiescent Current, Programmable-Delay Supervisory Circuit, 1 Supply Monitored, -40 to 125 degC, 6-pin SOT-23 (DBV), Green (RoHS & no Sb/Br); Manufacturer: Texas Instruments; PartNumber: TPS3808G01DBVR; # of supplies monitored: 1; Iq(Typ)(uA): 2.4; Output Driver Type / Reset Output: Active-low, Open-drain; Rating: Catalog; SubFamily: Supervisor and Reset IC; Threshold Voltage 1 (typ)(Typ)(V): Adjustable; VCC(Max)(V): 6.5; VCC(Min)(V): 1.7; DatasheetVersion: SBVS050J; PackageVersion: revK, Mar-2006; PackageReference: DBV6; PackageDescription: 6-Pin Plastic Small-Outline Package, 2.9 x 1.6 mm Body, 0.95 mm Pitch, 2.8 mm Lead Span; Supplier 1: Digi-Key; Supplier Part Number 1: 296-17188-2-ND; Supplier 2: Digi-Key; Supplier Part Number 2: 296-17188-1-ND; Supplier 3: Digi-Key; Supplier Part Number 3: 296-17188-6-ND; Supplier 4: Newark; Supplier Part Number 4: 21J9196; Supplier 5: Mouser; Supplier Part Number 5: 595-TPS3808G01DBVR; Reset Threshold Accuracy(%): 1; Time Delay(ms): Programmable; Mounting Technology: Surface Mount; Code_JEDEC: MO-178-AB*; ComponentLink1Description: Datasheet; ComponentLink1URL: http://www.ti.com/general/docs/lit/getliterature.tsp?genericPartNumber=TPS3808G01&fileType=pdf
footprint DBV6_N (SOT23, 6-Leads, Body 2.9x1.6mm, Pitch 0.95mm, Lead Span 2.8mm, IPC Medium Density)
footprint DBV6_L (SOT23, 6-Leads, Body 2.9x1.6mm, Pitch 0.95mm, Lead Span 2.8mm, IPC High Density)
footprint DBV6_M (SOT23, 6-Leads, Body 2.9x1.6mm, Pitch 0.95mm, Lead Span 2.8mm, IPC Low Density)
pins: 1 ~{RESET} (hiz) "R\E\S\E\T\ is an open-drain output that is driven to a low impedance state when R\E\S\E\T\ is asserted (either the SENSE input is lower than the threshold voltage (VIT) or the M\R\ pin is set to a logic low). R\E\S\E\T\ will (See Datasheet)", 2 GND (power) "Ground", 3 ~{MR} (in) "Driving the manual reset pin (M\R\) low asserts R\E\S\E\T\. M\R\ is internally tied to VDD by a 90k ohm pull-up resistor", 4 CT (in) "Reset period programming pin. Connecting this pin to VDD through a 40k ohm to 200k ohm resistor or leaving it open results in fixed delay times (see Electrical Characteristics). Connecting this pin to a ground referenced (See Datasheet)", 5 SENSE (in) "This pin is connected to the voltage to be monitored. If the voltage at this terminal drops below the threshold voltage VIT, then R\E\S\E\T\ is asserted.", 6 VDD (power) "Supply voltage. It is good analog design practice to place a 0.1µF ceramic capacitor close to this pin."

## TPS3808G01DBVRG4
designator U?
Low Quiescent Current, Programmable-Delay Supervisory Circuit, 1 Supply Monitored, -40 to 125 degC, 6-pin SOT-23 (DBV), Green (RoHS & no Sb/Br); Manufacturer: Texas Instruments; PartNumber: TPS3808G01DBVRG4; # of supplies monitored: 1; Iq(Typ)(uA): 2.4; Output Driver Type / Reset Output: Active-low, Open-drain; Rating: Catalog; SubFamily: Supervisor and Reset IC; Threshold Voltage 1 (typ)(Typ)(V): Adjustable; VCC(Max)(V): 6.5; VCC(Min)(V): 1.7; DatasheetVersion: SBVS050J; PackageVersion: revK, Mar-2006; PackageReference: DBV6; PackageDescription: 6-Pin Plastic Small-Outline Package, 2.9 x 1.6 mm Body, 0.95 mm Pitch, 2.8 mm Lead Span; Supplier 1: Digi-Key; Supplier Part Number 1: TPS3808G01DBVRG4-ND; Supplier 2: Newark; Supplier Part Number 2: 08K4939; Supplier 3: Mouser; Supplier Part Number 3: 595-TPS3808G01DBVRG4; Reset Threshold Accuracy(%): 1; Time Delay(ms): Programmable; Mounting Technology: Surface Mount; Code_JEDEC: MO-178-AB*; ComponentLink1Description: Datasheet; ComponentLink1URL: http://www.ti.com/general/docs/lit/getliterature.tsp?genericPartNumber=TPS3808G01&fileType=pdf
footprint DBV6_N (SOT23, 6-Leads, Body 2.9x1.6mm, Pitch 0.95mm, Lead Span 2.8mm, IPC Medium Density)
footprint DBV6_L (SOT23, 6-Leads, Body 2.9x1.6mm, Pitch 0.95mm, Lead Span 2.8mm, IPC High Density)
footprint DBV6_M (SOT23, 6-Leads, Body 2.9x1.6mm, Pitch 0.95mm, Lead Span 2.8mm, IPC Low Density)
pins: 1 ~{RESET} (hiz) "R\E\S\E\T\ is an open-drain output that is driven to a low impedance state when R\E\S\E\T\ is asserted (either the SENSE input is lower than the threshold voltage (VIT) or the M\R\ pin is set to a logic low). R\E\S\E\T\ will (See Datasheet)", 2 GND (power) "Ground", 3 ~{MR} (in) "Driving the manual reset pin (M\R\) low asserts R\E\S\E\T\. M\R\ is internally tied to VDD by a 90k ohm pull-up resistor", 4 CT (in) "Reset period programming pin. Connecting this pin to VDD through a 40k ohm to 200k ohm resistor or leaving it open results in fixed delay times (see Electrical Characteristics). Connecting this pin to a ground referenced (See Datasheet)", 5 SENSE (in) "This pin is connected to the voltage to be monitored. If the voltage at this terminal drops below the threshold voltage VIT, then R\E\S\E\T\ is asserted.", 6 VDD (power) "Supply voltage. It is good analog design practice to place a 0.1µF ceramic capacitor close to this pin."